# EAGLE library part RY_1CC (library DMClock2018)
Magnetic relay, type 1C with two common contacts
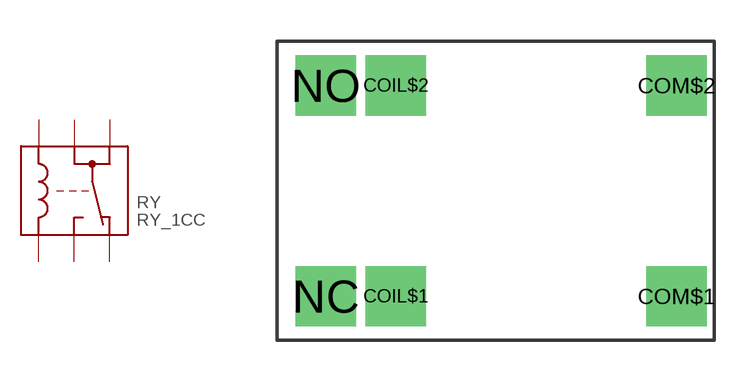
[diagram p0: symbol with the pads of 946H_1C; footprint 946H_1C]

Designator prefix RY

## RY_1CC'946H'  [946H_1C]
COIL$1  COIL$1  pas
COIL$2  COIL$2  pas
COM$1  COM$1  pas
COM$2  COM$2  pas
NC  NC  pas
NO  NO  pas

## Footprint 946H_1C (pad centres in mm)
drill 1 pad 2.184 square: COIL$1 -3.81,-3.81; COIL$2 -3.81,3.81; COM$1 6.35,-3.81; COM$2 6.35,3.81; NC -6.35,-3.81; NO -6.35,3.81